# Altium footprint library LED340X340X280-6L.PcbLib: 1 footprints
Each footprint in its own frame and in the unit in brackets; x right, y up, seen from the top. Pads: shape width x height; smd on the part's side, far side on the other; paste and mask are expansions set on the pad; w line width, h text height; cw(c..) or ccw(c..) is an arc to the next point about the centre after c.
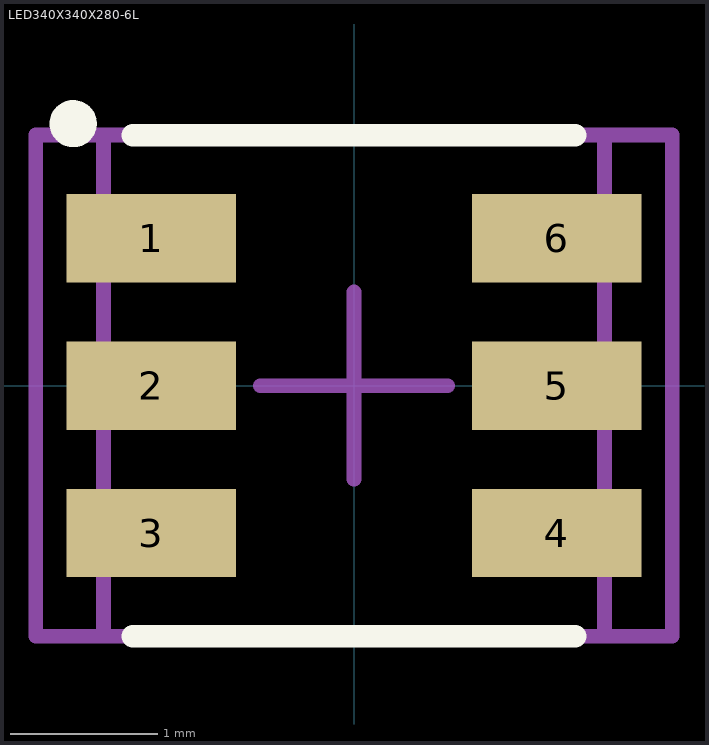
[diagram p0: the footprint, top view; thin cyan lines are the x and y axes]

## LED340X340X280-6L [mm] "Pitch 1mm Body 3.4x3.4mm High 2.8mm"
height 2.8
pads (6):
  rect 1.15x0.6 smd: 1(-1.375,1) 2(-1.375,0) 3(-1.375,-1) 4(1.375,-1) 5(1.375,0) 6(1.375,1)
Top Overlay:
  circle w0.16: c-1.905,1.778 r0.08
  lines w0.152: -1.5,-1.7 1.5,-1.7 ; -1.5,1.7 1.5,1.7
Mechanical 13:
  lines w0.1: -1.7,-1.7 -1.7,1.7 1.7,1.7 1.7,-1.7 -1.7,-1.7
Mechanical 15:
  lines w0.1: -0.635,0 0.635,0 ; 0,-0.635 0,0.635 ; -2.159,-1.7 2.159,-1.7 2.159,1.7 -2.159,1.7 -2.159,-1.7
Mechanical 29:
  lines w0.1: -2.159,-1.7 -2.159,1.7 2.159,1.7 2.159,-1.7 -2.159,-1.7
  text ".Designator" at -0.762,-0.508 h1.52
3D body: height 2.8, standoff -0.05, extent -1.84,-1.715 1.84,1.715
3D body: height 2.8, standoff 1.6, extent -1.442,-1.453 1.442,1.453